# Altium footprint library add.PcbLib: 3 footprints
Each footprint in its own frame and in the unit in brackets; x right, y up, seen from the top. Pads: shape width x height; smd on the part's side, far side on the other; paste and mask are expansions set on the pad; w line width, h text height; cw(c..) or ccw(c..) is an arc to the next point about the centre after c.
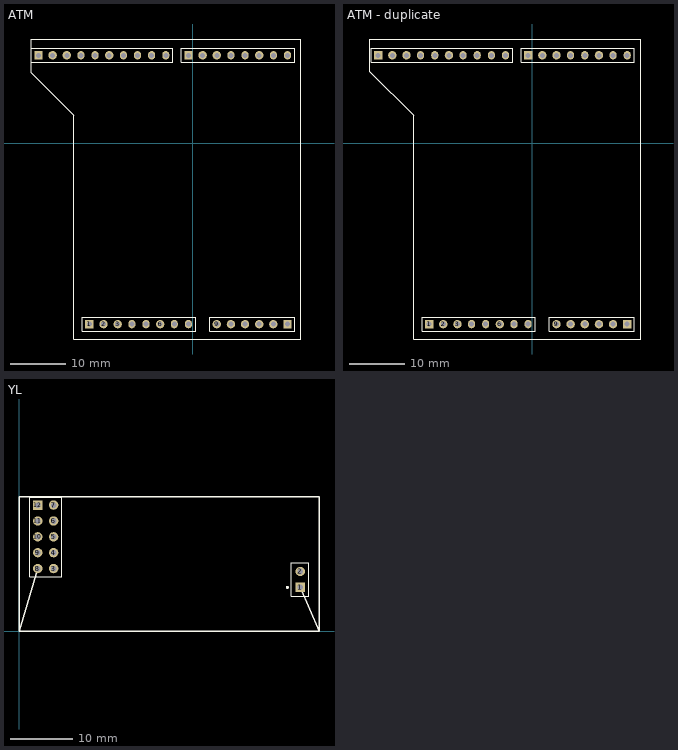
[diagram p0: the footprints below, top view; thin cyan lines are the x and y axes]

## ATM [mm]
pads (32):
  rect 1.5x1.5 hole 0.9: 1(-18.542,-32.512) 14(17.018,-32.512) 22(-0.762,15.748) 32(-27.686,15.748)
  round 1.5 hole 0.9: 2(-16.002,-32.512) 3(-13.462,-32.512) 6(-5.842,-32.512) 9(4.318,-32.512) 10(6.858,-32.512) 11(9.398,-32.512) 12(11.938,-32.512) 13(14.478,-32.512) 17(11.938,15.748) 20(4.318,15.748) 21(1.778,15.748) 27(-14.986,15.748) 30(-22.606,15.748) 31(-25.146,15.748)
  oval 1.27x1.5 hole 0.9: 4(-10.922,-32.512) 5(-8.382,-32.512) 7(-3.302,-32.512) 8(-0.762,-32.512) 15(17.018,15.748) 16(14.478,15.748) 18(9.398,15.748) 19(6.858,15.748) 23(-4.826,15.748) 24(-7.366,15.748) 25(-9.906,15.748) 26(-12.446,15.748) 28(-17.526,15.748) 29(-20.066,15.748)
Top Overlay:
  lines w0.2: 18.288,14.478 -2.032,14.478 -2.032,17.018 18.288,17.018 ; -28.956,14.478 -3.556,14.478 -3.556,17.018 -28.956,17.018 -28.956,14.478 ; -19.812,-33.782 0.508,-33.782 0.508,-31.242 -19.812,-31.242 -19.812,-33.782 ; 3.048,-33.782 18.288,-33.782 18.288,-31.242 3.048,-31.242 3.048,-33.782
  lines w0.203: 18.288,14.478 18.288,17.018 ; -28.956,12.573 -21.336,4.953 -21.336,-35.179 19.431,-35.179 19.431,18.669 -28.956,18.669 -28.956,12.573
3D body "User Library-ZL262-3SG.step": height 8.65, standoff -2.9, extent 3.048,-33.762 10.668,-31.262
3D body "User Library-ZL262-3SG.step": height 8.65, standoff -2.9, extent 10.668,-33.762 18.288,-31.262
3D body "User Library-ZL262-10SG.step": height 8.65, standoff -2.9, extent -28.956,14.498 -3.556,16.998
3D body "User Library-ZL262-4SG.step": height 8.65, standoff -2.9, extent -2.032,14.498 8.128,16.998
3D body "User Library-ZL262-4SG.step": height 8.65, standoff -2.9, extent 8.128,14.498 18.288,16.998
3D body "User Library-ZL262-4SG.step": height 8.65, standoff -2.9, extent -19.812,-33.762 -9.652,-31.262
3D body "User Library-ZL262-4SG.step": height 8.65, standoff -2.9, extent -9.652,-33.762 0.508,-31.262

## ATM - duplicate [mm]
pads (32):
  rect 1.5x1.5 hole 0.9: 1(-18.542,-32.512) 14(17.018,-32.512) 22(-0.762,15.748) 32(-27.686,15.748)
  round 1.5 hole 0.9: 2(-16.002,-32.512) 3(-13.462,-32.512) 6(-5.842,-32.512) 9(4.318,-32.512) 10(6.858,-32.512) 11(9.398,-32.512) 12(11.938,-32.512) 13(14.478,-32.512) 17(11.938,15.748) 20(4.318,15.748) 21(1.778,15.748) 27(-14.986,15.748) 30(-22.606,15.748) 31(-25.146,15.748)
  oval 1.27x1.5 hole 0.9: 4(-10.922,-32.512) 5(-8.382,-32.512) 7(-3.302,-32.512) 8(-0.762,-32.512) 15(17.018,15.748) 16(14.478,15.748) 18(9.398,15.748) 19(6.858,15.748) 23(-4.826,15.748) 24(-7.366,15.748) 25(-9.906,15.748) 26(-12.446,15.748) 28(-17.526,15.748) 29(-20.066,15.748)
Top Overlay:
  lines w0.2: 18.288,14.478 -2.032,14.478 -2.032,17.018 18.288,17.018 ; -28.956,14.478 -28.956,17.018 -3.556,17.018 -3.556,14.478 -28.956,14.478 ; -19.812,-33.782 -19.812,-31.242 0.508,-31.242 0.508,-33.782 -19.812,-33.782 ; 3.048,-33.782 3.048,-31.242 18.288,-31.242 18.288,-33.782 3.048,-33.782
  lines w0.203: 18.288,14.478 18.288,17.018 ; -29.21,12.827 -29.21,18.669 19.431,18.669 19.431,-35.179 -21.336,-35.179 -21.336,4.953 -29.21,12.827
3D body "User Library-ZL262-4SG.step": height 8.65, standoff -2.9, extent -9.652,-33.762 0.508,-31.262
3D body "User Library-ZL262-4SG.step": height 8.65, standoff -2.9, extent -19.812,-33.762 -9.652,-31.262
3D body "User Library-ZL262-4SG.step": height 8.65, standoff -2.9, extent 8.128,14.498 18.288,16.998
3D body "User Library-ZL262-4SG.step": height 8.65, standoff -2.9, extent -2.032,14.498 8.128,16.998
3D body "User Library-ZL262-10SG.step": height 8.65, standoff -2.9, extent -28.956,14.498 -3.556,16.998
3D body "User Library-ZL262-3SG.step": height 8.65, standoff -2.9, extent 10.668,-33.762 18.288,-31.262
3D body "User Library-ZL262-3SG.step": height 8.65, standoff -2.9, extent 3.048,-33.762 10.668,-31.262

## YL [mm]
pads (12):
  rect 1.5x1.5 hole 0.9: 1(45,7) 12(3,20.16)
  round 1.5 hole 0.9: 2(45,9.54) 3(5.54,10) 4(5.54,12.54) 5(5.54,15.08) 6(5.54,17.62) 7(5.54,20.16) 8(3,10) 9(3,12.54) 10(3,15.08) 11(3,17.62)
Top Overlay:
  circle w0.25: c42.95,7 r0.125
  lines w0.2: 1.73,8.73 1.73,21.43 6.81,21.43 6.81,8.73 1.73,8.73 ; 43.6,5.6 46.4,5.6 46.4,10.94 43.6,10.94 43.6,5.6
  lines w0.203: 0,0.762 0,0 ; 0.254,0 0,0 ; 0.381,0 0,0 ; 3,10 0,0 ; 45,7 48,0 ; 47.625,0 47.879,0 48,0 ; 48,2.419 48,0 ; 0,0 0,21.463 48,21.463 48,0 ; 0,0 48,0